# EAGLE library part CON-6 (library firefly)
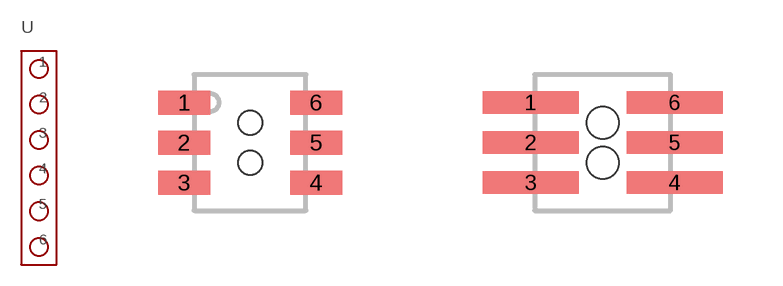
[diagram p15: symbol with the pads of M40-3100345R; footprints M40-3100345R, M40-3200345R]

Designator prefix -

## CON-6SOCKET  [M40-3100345R]
1  1
2  2
3  3
4  4
5  5
6  6

## CON-6HEADER  [M40-3200345R]
Pads as for M40-3100345R

## Footprint M40-3100345R (pad centres in mm)
smd 1.3 x 0.6: 1 -1.65,1; 2 -1.65,0; 3 -1.65,-1; 4 1.65,-1; 5 1.65,0; 6 1.65,1
hole 0.6 at 0,-0.5
hole 0.6 at 0,0.5

## Footprint M40-3200345R (pad centres in mm)
smd 2.4 x 0.56: 1 -1.8,1; 2 -1.8,0; 3 -1.8,-1; 4 1.8,-1; 5 1.8,0; 6 1.8,1
hole 0.8 at 0,-0.5
hole 0.8 at 0,0.5